# Altium integrated library FPC.IntLib: 24 symbols
Pins are listed as number, name and electrical type; pins without a type are passive.

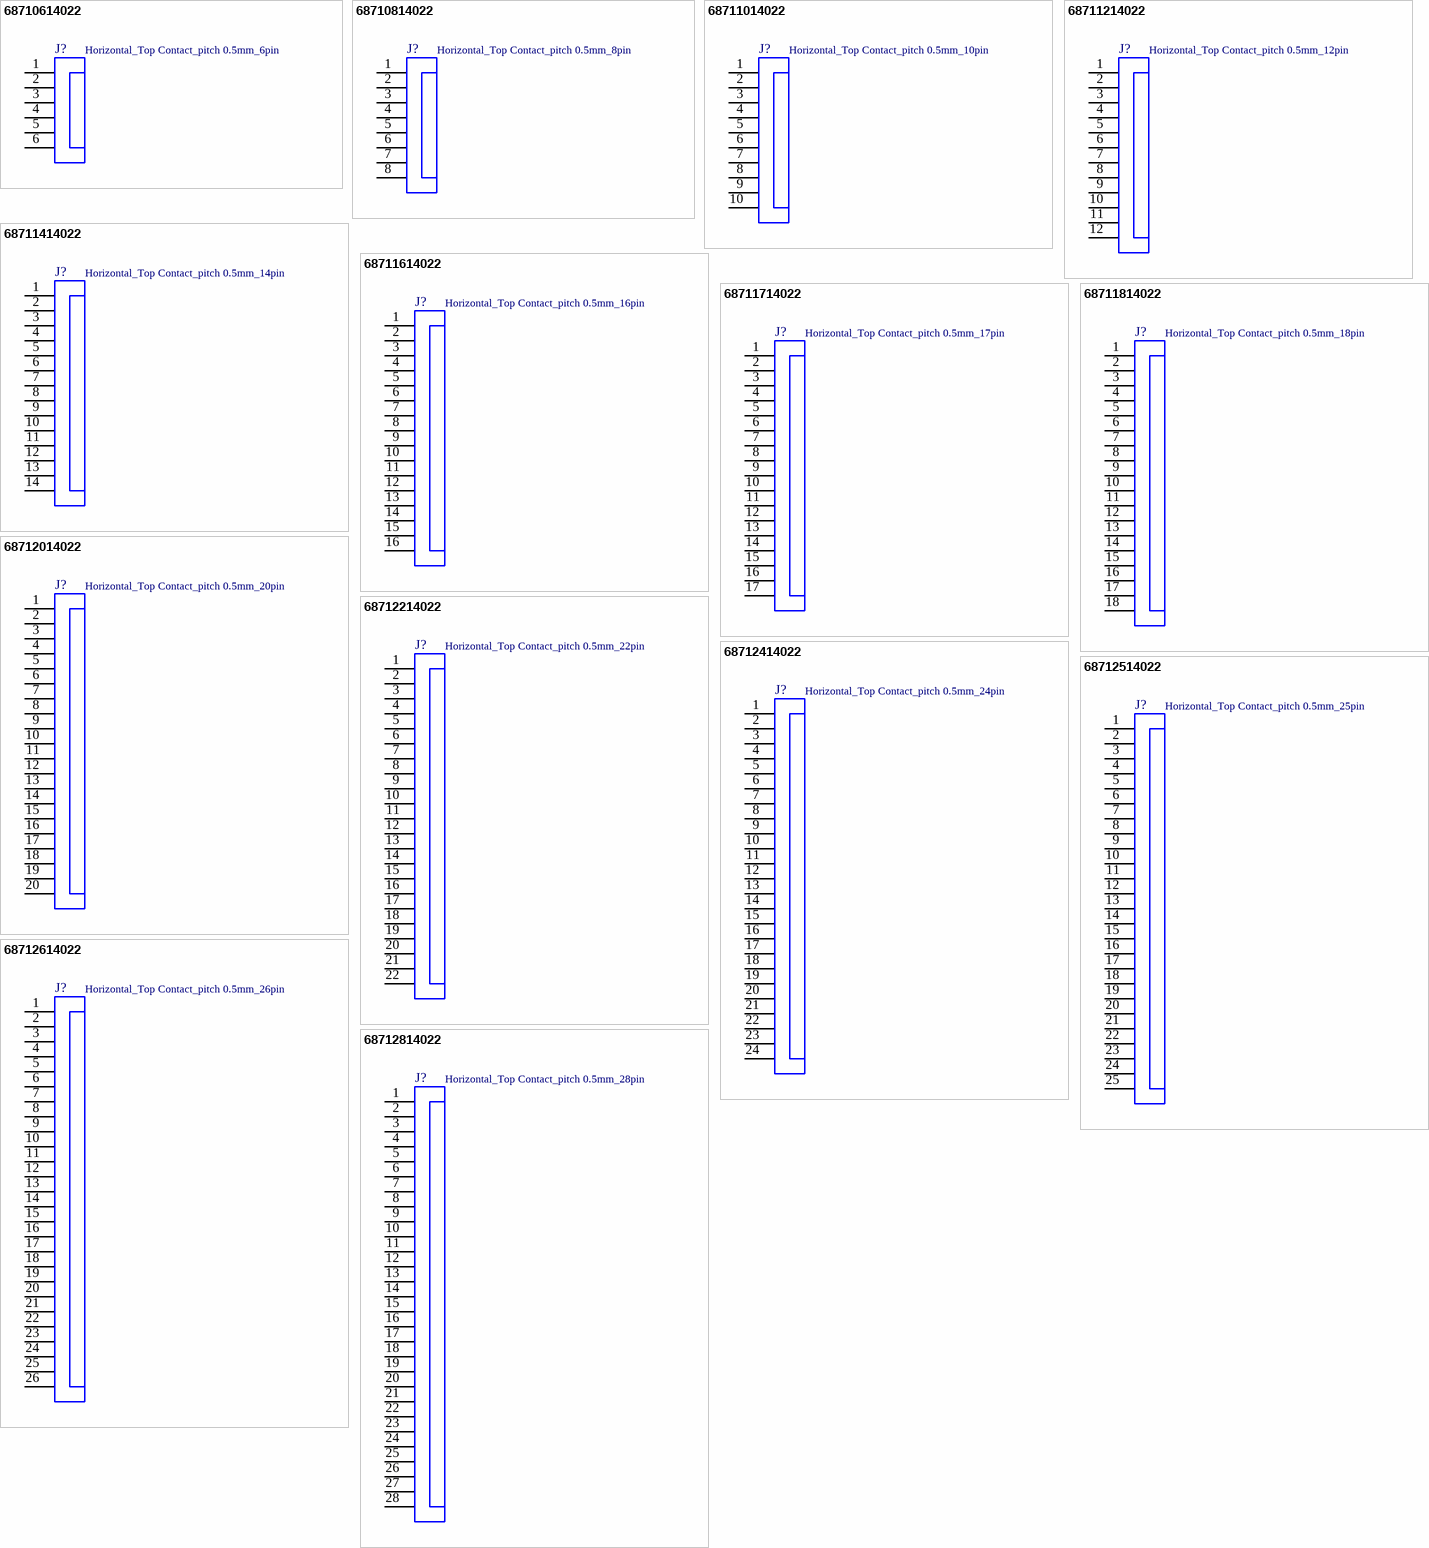
[diagram p0: symbols 68710614022 to 68712814022]

## 68710614022
designator J?, comment Horizontal_Top Contact_pitch 0.5mm_6pin
ZIF Connectors WR-FPC, Horizontal, Top Contact, pitch 0.5mm, 6pin; Part Number: 68710614022; Rated Current: 0.5A; Pin Number: 6; Contact Resistance: 20mOhm; ComponentLink1Description: Manufacturer; ComponentLink1URL: http://www.we-online.de; ComponentLink2Description: Datasheet; ComponentLink2URL: http://katalog.we-online.de/em/datasheet/68710614022.pdf; Published Date: Jan. 2018; Publisher: Wurth Elektronik; Pitch: 0.5mm; Operating Temperature: -25 to 85 degC; Mounting Technology: SMT; Orientation: Horizontal; Contact Design: Top Contact
footprint 68710614022
pins: 1, 2, 3, 4, 5, 6

## 68710814022
designator J?, comment Horizontal_Top Contact_pitch 0.5mm_8pin
ZIF Connectors WR-FPC, Horizontal, Top Contact, pitch 0.5mm, 8pin; Part Number: 68710814022; Rated Current: 0.5A; Pin Number: 8; Contact Resistance: 20mOhm; ComponentLink1Description: Manufacturer; ComponentLink1URL: http://www.we-online.de; ComponentLink2Description: Datasheet; ComponentLink2URL: http://katalog.we-online.de/em/datasheet/68710814022.pdf; Published Date: Jan. 2018; Publisher: Wurth Elektronik; Pitch: 0.5mm; Operating Temperature: -25 to 85 degC; Mounting Technology: SMT; Orientation: Horizontal; Contact Design: Top Contact
footprint 68710814022
pins: 1, 2, 3, 4, 5, 6, 7, 8

## 68711014022
designator J?, comment Horizontal_Top Contact_pitch 0.5mm_10pin
ZIF Connectors WR-FPC, Horizontal, Top Contact, pitch 0.5mm, 10pin; Part Number: 68711014022; Rated Current: 0.5A; Pin Number: 10; Contact Resistance: 20mOhm; ComponentLink1Description: Manufacturer; ComponentLink1URL: http://www.we-online.de; ComponentLink2Description: Datasheet; ComponentLink2URL: http://katalog.we-online.de/em/datasheet/68711014022.pdf; Published Date: Jan. 2018; Publisher: Wurth Elektronik; Pitch: 0.5mm; Operating Temperature: -25 to 85 degC; Mounting Technology: SMT; Orientation: Horizontal; Contact Design: Top Contact
footprint 68711014022
pins: 1, 2, 3, 4, 5, 6, 7, 8, 9, 10

## 68711214022
designator J?, comment Horizontal_Top Contact_pitch 0.5mm_12pin
ZIF Connectors WR-FPC, Horizontal, Top Contact, pitch 0.5mm, 12pin; Part Number: 68711214022; Rated Current: 0.5A; Pin Number: 12; Contact Resistance: 20mOhm; ComponentLink1Description: Manufacturer; ComponentLink1URL: http://www.we-online.de; ComponentLink2Description: Datasheet; ComponentLink2URL: http://katalog.we-online.de/em/datasheet/68711214022.pdf; Published Date: Jan. 2018; Publisher: Wurth Elektronik; Pitch: 0.5mm; Operating Temperature: -25 to 85 degC; Mounting Technology: SMT; Orientation: Horizontal; Contact Design: Top Contact
footprint 68711214022
pins: 1, 2, 3, 4, 5, 6, 7, 8, 9, 10, 11, 12

## 68711414022
designator J?, comment Horizontal_Top Contact_pitch 0.5mm_14pin
ZIF Connectors WR-FPC, Horizontal, Top Contact, pitch 0.5mm, 14pin; Part Number: 68711414022; Rated Current: 0.5A; Pin Number: 14; Contact Resistance: 20mOhm; ComponentLink1Description: Manufacturer; ComponentLink1URL: http://www.we-online.de; ComponentLink2Description: Datasheet; ComponentLink2URL: http://katalog.we-online.de/em/datasheet/68711414022.pdf; Published Date: Jan. 2018; Publisher: Wurth Elektronik; Pitch: 0.5mm; Operating Temperature: -25 to 85 degC; Mounting Technology: SMT; Orientation: Horizontal; Contact Design: Top Contact
footprint 68711414022
pins: 1, 2, 3, 4, 5, 6, 7, 8, 9, 10, 11, 12, 13, 14

## 68711614022
designator J?, comment Horizontal_Top Contact_pitch 0.5mm_16pin
ZIF Connectors WR-FPC, Horizontal, Top Contact, pitch 0.5mm, 16pin; Part Number: 68711614022; Rated Current: 0.5A; Pin Number: 16; Contact Resistance: 20mOhm; ComponentLink1Description: Manufacturer; ComponentLink1URL: http://www.we-online.de; ComponentLink2Description: Datasheet; ComponentLink2URL: http://katalog.we-online.de/em/datasheet/68711614022.pdf; Published Date: Jan. 2018; Publisher: Wurth Elektronik; Pitch: 0.5mm; Operating Temperature: -25 to 85 degC; Mounting Technology: SMT; Orientation: Horizontal; Contact Design: Top Contact
footprint 68711614022
pins: 1, 2, 3, 4, 5, 6, 7, 8, 9, 10, 11, 12, 13, 14, 15, 16

## 68711714022
designator J?, comment Horizontal_Top Contact_pitch 0.5mm_17pin
ZIF Connectors WR-FPC, Horizontal, Top Contact, pitch 0.5mm, 17pin; Part Number: 68711714022; Rated Current: 0.5A; Pin Number: 17; Contact Resistance: 20mOhm; ComponentLink1Description: Manufacturer; ComponentLink1URL: http://www.we-online.de; ComponentLink2Description: Datasheet; ComponentLink2URL: http://katalog.we-online.de/em/datasheet/68711714022.pdf; Published Date: Jan. 2018; Publisher: Wurth Elektronik; Pitch: 0.5mm; Operating Temperature: -25 to 85 degC; Mounting Technology: SMT; Orientation: Horizontal; Contact Design: Top Contact
footprint 68711714022
pins: 1, 2, 3, 4, 5, 6, 7, 8, 9, 10, 11, 12, 13, 14, 15, 16, 17

## 68711814022
designator J?, comment Horizontal_Top Contact_pitch 0.5mm_18pin
ZIF Connectors WR-FPC, Horizontal, Top Contact, pitch 0.5mm, 18pin; Part Number: 68711814022; Rated Current: 0.5A; Pin Number: 18; Contact Resistance: 20mOhm; ComponentLink1Description: Manufacturer; ComponentLink1URL: http://www.we-online.de; ComponentLink2Description: Datasheet; ComponentLink2URL: http://katalog.we-online.de/em/datasheet/68711814022.pdf; Published Date: Jan. 2018; Publisher: Wurth Elektronik; Pitch: 0.5mm; Operating Temperature: -25 to 85 degC; Mounting Technology: SMT; Orientation: Horizontal; Contact Design: Top Contact
footprint 68711814022
pins: 1, 2, 3, 4, 5, 6, 7, 8, 9, 10, 11, 12, 13, 14, 15, 16, 17, 18

## 68712014022
designator J?, comment Horizontal_Top Contact_pitch 0.5mm_20pin
ZIF Connectors WR-FPC, Horizontal, Top Contact, pitch 0.5mm, 20pin; Part Number: 68712014022; Rated Current: 0.5A; Pin Number: 20; Contact Resistance: 20mOhm; ComponentLink1Description: Manufacturer; ComponentLink1URL: http://www.we-online.de; ComponentLink2Description: Datasheet; ComponentLink2URL: http://katalog.we-online.de/em/datasheet/68712014022.pdf; Published Date: Jan. 2018; Publisher: Wurth Elektronik; Pitch: 0.5mm; Operating Temperature: -25 to 85 degC; Mounting Technology: SMT; Orientation: Horizontal; Contact Design: Top Contact
footprint 68712014022
pins: 1, 2, 3, 4, 5, 6, 7, 8, 9, 10, 11, 12, 13, 14, 15, 16, 17, 18, 19, 20

## 68712214022
designator J?, comment Horizontal_Top Contact_pitch 0.5mm_22pin
ZIF Connectors WR-FPC, Horizontal, Top Contact, pitch 0.5mm, 22pin; Part Number: 68712214022; Rated Current: 0.5A; Pin Number: 22; Contact Resistance: 20mOhm; ComponentLink1Description: Manufacturer; ComponentLink1URL: http://www.we-online.de; ComponentLink2Description: Datasheet; ComponentLink2URL: http://katalog.we-online.de/em/datasheet/68712214022.pdf; Published Date: Jan. 2018; Publisher: Wurth Elektronik; Pitch: 0.5mm; Operating Temperature: -25 to 85 degC; Mounting Technology: SMT; Orientation: Horizontal; Contact Design: Top Contact
footprint 68712214022
pins: 1, 2, 3, 4, 5, 6, 7, 8, 9, 10, 11, 12, 13, 14, 15, 16, 17, 18, 19, 20, 21, 22

## 68712414022
designator J?, comment Horizontal_Top Contact_pitch 0.5mm_24pin
ZIF Connectors WR-FPC, Horizontal, Top Contact, pitch 0.5mm, 24pin; Part Number: 68712414022; Rated Current: 0.5A; Pin Number: 24; Contact Resistance: 20mOhm; ComponentLink1Description: Manufacturer; ComponentLink1URL: http://www.we-online.de; ComponentLink2Description: Datasheet; ComponentLink2URL: http://katalog.we-online.de/em/datasheet/68712414022.pdf; Published Date: Jan. 2018; Publisher: Wurth Elektronik; Pitch: 0.5mm; Operating Temperature: -25 to 85 degC; Mounting Technology: SMT; Orientation: Horizontal; Contact Design: Top Contact
footprint 68712414022
pins: 1, 2, 3, 4, 5, 6, 7, 8, 9, 10, 11, 12, 13, 14, 15, 16, 17, 18, 19, 20, 21, 22, 23, 24

## 68712514022
designator J?, comment Horizontal_Top Contact_pitch 0.5mm_25pin
ZIF Connectors WR-FPC, Horizontal, Top Contact, pitch 0.5mm, 25pin; Part Number: 68712514022; Rated Current: 0.5A; Pin Number: 25; Contact Resistance: 20mOhm; ComponentLink1Description: Manufacturer; ComponentLink1URL: http://www.we-online.de; ComponentLink2Description: Datasheet; ComponentLink2URL: http://katalog.we-online.de/em/datasheet/68712514022.pdf; Published Date: Jan. 2018; Publisher: Wurth Elektronik; Pitch: 0.5mm; Operating Temperature: -25 to 85 degC; Mounting Technology: SMT; Orientation: Horizontal; Contact Design: Top Contact
footprint 68712514022
pins: 1, 2, 3, 4, 5, 6, 7, 8, 9, 10, 11, 12, 13, 14, 15, 16, 17, 18, 19, 20, 21, 22, 23, 24, 25

## 68712614022
designator J?, comment Horizontal_Top Contact_pitch 0.5mm_26pin
ZIF Connectors WR-FPC, Horizontal, Top Contact, pitch 0.5mm, 26pin; Part Number: 68712614022; Rated Current: 0.5A; Pin Number: 26; Contact Resistance: 20mOhm; ComponentLink1Description: Manufacturer; ComponentLink1URL: http://www.we-online.de; ComponentLink2Description: Datasheet; ComponentLink2URL: http://katalog.we-online.de/em/datasheet/68712614022.pdf; Published Date: Jan. 2018; Publisher: Wurth Elektronik; Pitch: 0.5mm; Operating Temperature: -25 to 85 degC; Mounting Technology: SMT; Orientation: Horizontal; Contact Design: Top Contact
footprint 68712614022
pins: 1, 2, 3, 4, 5, 6, 7, 8, 9, 10, 11, 12, 13, 14, 15, 16, 17, 18, 19, 20, 21, 22, 23, 24, 25, 26

## 68712814022
designator J?, comment Horizontal_Top Contact_pitch 0.5mm_28pin
ZIF Connectors WR-FPC, Horizontal, Top Contact, pitch 0.5mm, 28pin; Part Number: 68712814022; Rated Current: 0.5A; Pin Number: 28; Contact Resistance: 20mOhm; ComponentLink1Description: Manufacturer; ComponentLink1URL: http://www.we-online.de; ComponentLink2Description: Datasheet; ComponentLink2URL: http://katalog.we-online.de/em/datasheet/68712814022.pdf; Published Date: Jan. 2018; Publisher: Wurth Elektronik; Pitch: 0.5mm; Operating Temperature: -25 to 85 degC; Mounting Technology: SMT; Orientation: Horizontal; Contact Design: Top Contact
footprint 68712814022
pins: 1, 2, 3, 4, 5, 6, 7, 8, 9, 10, 11, 12, 13, 14, 15, 16, 17, 18, 19, 20, 21, 22, 23, 24, 25, 26, 27, 28

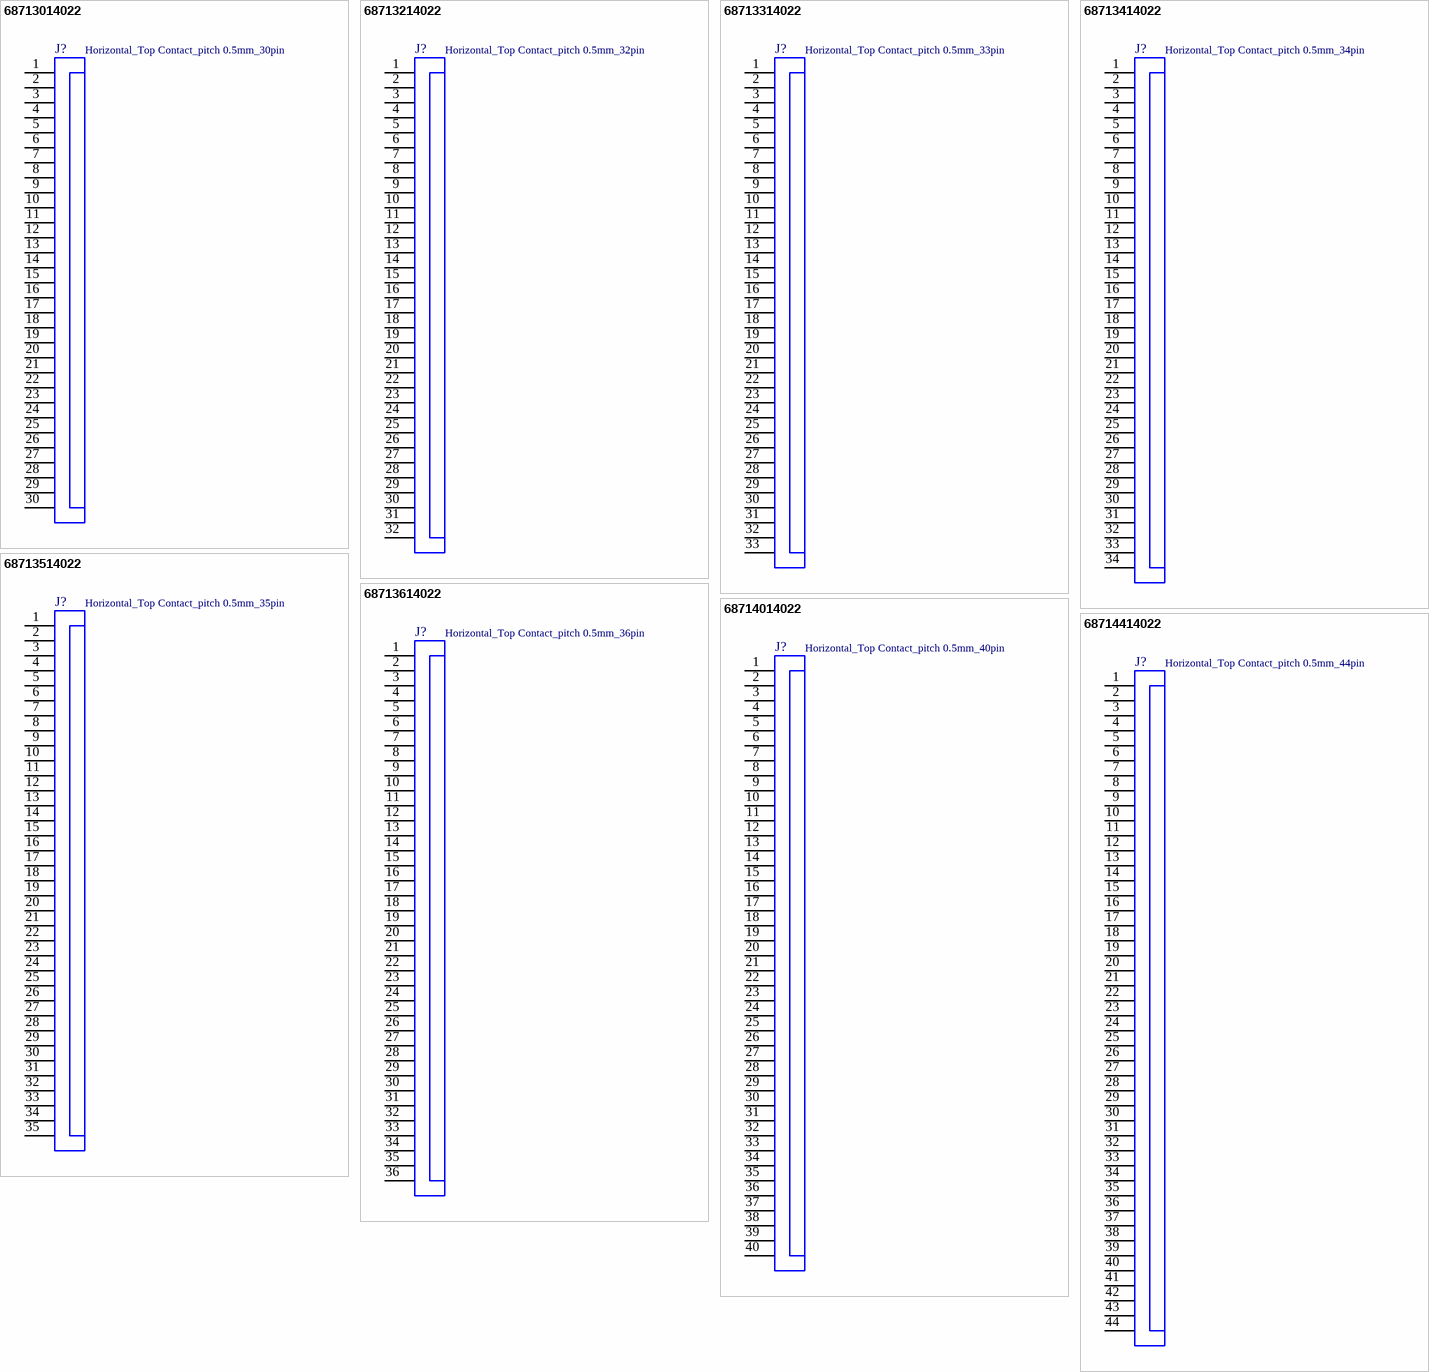
[diagram p1: symbols 68713014022 to 68714414022]

## 68713014022
designator J?, comment Horizontal_Top Contact_pitch 0.5mm_30pin
ZIF Connectors WR-FPC, Horizontal, Top Contact, pitch 0.5mm, 30pin; Part Number: 68713014022; Rated Current: 0.5A; Pin Number: 30; Contact Resistance: 20mOhm; ComponentLink1Description: Manufacturer; ComponentLink1URL: http://www.we-online.de; ComponentLink2Description: Datasheet; ComponentLink2URL: http://katalog.we-online.de/em/datasheet/68713014022.pdf; Published Date: Jan. 2018; Publisher: Wurth Elektronik; Pitch: 0.5mm; Operating Temperature: -25 to 85 degC; Mounting Technology: SMT; Orientation: Horizontal; Contact Design: Top Contact
footprint 68713014022
pins: 1, 2, 3, 4, 5, 6, 7, 8, 9, 10, 11, 12, 13, 14, 15, 16, 17, 18, 19, 20, 21, 22, 23, 24, 25, 26, 27, 28, 29, 30

## 68713214022
designator J?, comment Horizontal_Top Contact_pitch 0.5mm_32pin
ZIF Connectors WR-FPC, Horizontal, Top Contact, pitch 0.5mm, 32pin; Part Number: 68713214022; Rated Current: 0.5A; Pin Number: 32; Contact Resistance: 20mOhm; ComponentLink1Description: Manufacturer; ComponentLink1URL: http://www.we-online.de; ComponentLink2Description: Datasheet; ComponentLink2URL: http://katalog.we-online.de/em/datasheet/68713214022.pdf; Published Date: Jan. 2018; Publisher: Wurth Elektronik; Pitch: 0.5mm; Operating Temperature: -25 to 85 degC; Mounting Technology: SMT; Orientation: Horizontal; Contact Design: Top Contact
footprint 68713214022
pins: 1, 2, 3, 4, 5, 6, 7, 8, 9, 10, 11, 12, 13, 14, 15, 16, 17, 18, 19, 20, 21, 22, 23, 24, 25, 26, 27, 28, 29, 30, 31, 32

## 68713314022
designator J?, comment Horizontal_Top Contact_pitch 0.5mm_33pin
ZIF Connectors WR-FPC, Horizontal, Top Contact, pitch 0.5mm, 33pin; Part Number: 68713314022; Rated Current: 0.5A; Pin Number: 33; Contact Resistance: 20mOhm; ComponentLink1Description: Manufacturer; ComponentLink1URL: http://www.we-online.de; ComponentLink2Description: Datasheet; ComponentLink2URL: http://katalog.we-online.de/em/datasheet/68713314022.pdf; Published Date: Jan. 2018; Publisher: Wurth Elektronik; Pitch: 0.5mm; Operating Temperature: -25 to 85 degC; Mounting Technology: SMT; Orientation: Horizontal; Contact Design: Top Contact
footprint 68713314022
pins: 1, 2, 3, 4, 5, 6, 7, 8, 9, 10, 11, 12, 13, 14, 15, 16, 17, 18, 19, 20, 21, 22, 23, 24, 25, 26, 27, 28, 29, 30, 31, 32, 33

## 68713414022
designator J?, comment Horizontal_Top Contact_pitch 0.5mm_34pin
ZIF Connectors WR-FPC, Horizontal, Top Contact, pitch 0.5mm, 34pin; Part Number: 68713414022; Rated Current: 0.5A; Pin Number: 34; Contact Resistance: 20mOhm; ComponentLink1Description: Manufacturer; ComponentLink1URL: http://www.we-online.de; ComponentLink2Description: Datasheet; ComponentLink2URL: http://katalog.we-online.de/em/datasheet/68713414022.pdf; Published Date: Jan. 2018; Publisher: Wurth Elektronik; Pitch: 0.5mm; Operating Temperature: -25 to 85 degC; Mounting Technology: SMT; Orientation: Horizontal; Contact Design: Top Contact
footprint 68713414022
pins: 1, 2, 3, 4, 5, 6, 7, 8, 9, 10, 11, 12, 13, 14, 15, 16, 17, 18, 19, 20, 21, 22, 23, 24, 25, 26, 27, 28, 29, 30, 31, 32, 33, 34

## 68713514022
designator J?, comment Horizontal_Top Contact_pitch 0.5mm_35pin
ZIF Connectors WR-FPC, Horizontal, Top Contact, pitch 0.5mm, 35pin; Part Number: 68713514022; Rated Current: 0.5A; Pin Number: 35; Contact Resistance: 20mOhm; ComponentLink1Description: Manufacturer; ComponentLink1URL: http://www.we-online.de; ComponentLink2Description: Datasheet; ComponentLink2URL: http://katalog.we-online.de/em/datasheet/68713514022.pdf; Published Date: Jan. 2018; Publisher: Wurth Elektronik; Pitch: 0.5mm; Operating Temperature: -25 to 85 degC; Mounting Technology: SMT; Orientation: Horizontal; Contact Design: Top Contact
footprint 68713514022
pins: 1, 2, 3, 4, 5, 6, 7, 8, 9, 10, 11, 12, 13, 14, 15, 16, 17, 18, 19, 20, 21, 22, 23, 24, 25, 26, 27, 28, 29, 30, 31, 32, 33, 34, 35

## 68713614022
designator J?, comment Horizontal_Top Contact_pitch 0.5mm_36pin
ZIF Connectors WR-FPC, Horizontal, Top Contact, pitch 0.5mm, 36pin; Part Number: 68713614022; Rated Current: 0.5A; Pin Number: 36; Contact Resistance: 20mOhm; ComponentLink1Description: Manufacturer; ComponentLink1URL: http://www.we-online.de; ComponentLink2Description: Datasheet; ComponentLink2URL: http://katalog.we-online.de/em/datasheet/68713614022.pdf; Published Date: Jan. 2018; Publisher: Wurth Elektronik; Pitch: 0.5mm; Operating Temperature: -25 to 85 degC; Mounting Technology: SMT; Orientation: Horizontal; Contact Design: Top Contact
footprint 68713614022
pins: 1, 2, 3, 4, 5, 6, 7, 8, 9, 10, 11, 12, 13, 14, 15, 16, 17, 18, 19, 20, 21, 22, 23, 24, 25, 26, 27, 28, 29, 30, 31, 32, 33, 34, 35, 36

## 68714014022
designator J?, comment Horizontal_Top Contact_pitch 0.5mm_40pin
ZIF Connectors WR-FPC, Horizontal, Top Contact, pitch 0.5mm, 40pin; Part Number: 68714014022; Rated Current: 0.5A; Pin Number: 40; Contact Resistance: 20mOhm; ComponentLink1Description: Manufacturer; ComponentLink1URL: http://www.we-online.de; ComponentLink2Description: Datasheet; ComponentLink2URL: http://katalog.we-online.de/em/datasheet/68714014022.pdf; Published Date: Jan. 2018; Publisher: Wurth Elektronik; Pitch: 0.5mm; Operating Temperature: -25 to 85 degC; Mounting Technology: SMT; Orientation: Horizontal; Contact Design: Top Contact
footprint 68714014022
pins: 1, 2, 3, 4, 5, 6, 7, 8, 9, 10, 11, 12, 13, 14, 15, 16, 17, 18, 19, 20, 21, 22, 23, 24, 25, 26, 27, 28, 29, 30, 31, 32, 33, 34, 35, 36, 37, 38, 39, 40

## 68714414022
designator J?, comment Horizontal_Top Contact_pitch 0.5mm_44pin
ZIF Connectors WR-FPC, Horizontal, Top Contact, pitch 0.5mm, 44pin; Part Number: 68714414022; Rated Current: 0.5A; Pin Number: 44; Contact Resistance: 20mOhm; ComponentLink1Description: Manufacturer; ComponentLink1URL: http://www.we-online.de; ComponentLink2Description: Datasheet; ComponentLink2URL: http://katalog.we-online.de/em/datasheet/68714414022.pdf; Published Date: Jan. 2018; Publisher: Wurth Elektronik; Pitch: 0.5mm; Operating Temperature: -25 to 85 degC; Mounting Technology: SMT; Orientation: Horizontal; Contact Design: Top Contact
footprint 68714414022
pins: 1, 2, 3, 4, 5, 6, 7, 8, 9, 10, 11, 12, 13, 14, 15, 16, 17, 18, 19, 20, 21, 22, 23, 24, 25, 26, 27, 28, 29, 30, 31, 32, 33, 34, 35, 36, 37, 38, 39, 40, 41, 42, 43, 44

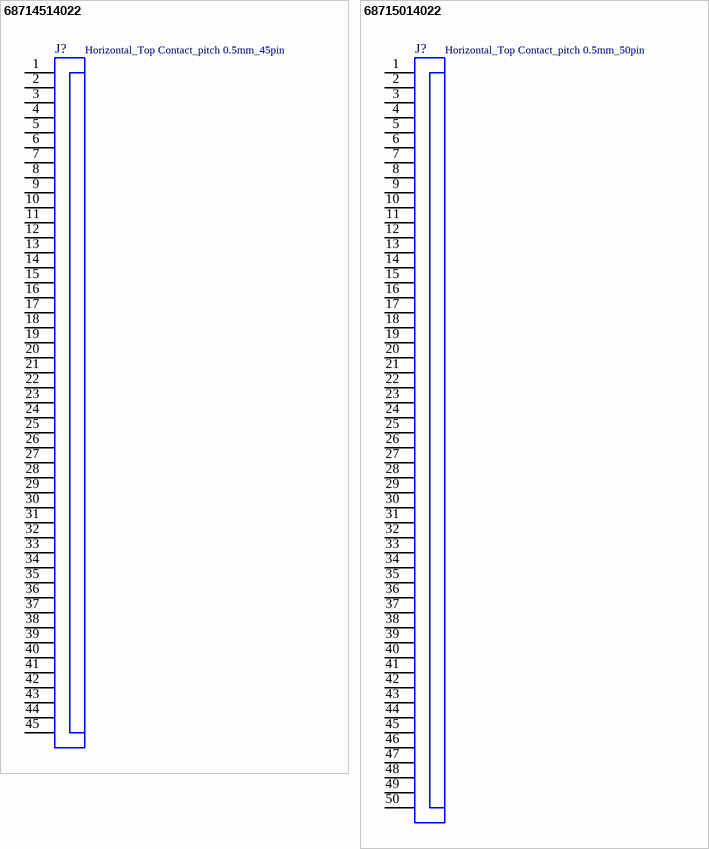
[diagram p2: symbols 68714514022 to 68715014022]

## 68714514022
designator J?, comment Horizontal_Top Contact_pitch 0.5mm_45pin
ZIF Connectors WR-FPC, Horizontal, Top Contact, pitch 0.5mm, 45pin; Part Number: 68714514022; Rated Current: 0.5A; Pin Number: 45; Contact Resistance: 20mOhm; ComponentLink1Description: Manufacturer; ComponentLink1URL: http://www.we-online.de; ComponentLink2Description: Datasheet; ComponentLink2URL: http://katalog.we-online.de/em/datasheet/68714514022.pdf; Published Date: Jan. 2018; Publisher: Wurth Elektronik; Pitch: 0.5mm; Operating Temperature: -25 to 85 degC; Mounting Technology: SMT; Orientation: Horizontal; Contact Design: Top Contact
footprint 68714514022
pins: 1, 2, 3, 4, 5, 6, 7, 8, 9, 10, 11, 12, 13, 14, 15, 16, 17, 18, 19, 20, 21, 22, 23, 24, 25, 26, 27, 28, 29, 30, 31, 32, 33, 34, 35, 36, 37, 38, 39, 40, 41, 42, 43, 44, 45

## 68715014022
designator J?, comment Horizontal_Top Contact_pitch 0.5mm_50pin
ZIF Connectors WR-FPC, Horizontal, Top Contact, pitch 0.5mm, 50pin; Part Number: 68715014022; Rated Current: 0.5A; Pin Number: 50; Contact Resistance: 20mOhm; ComponentLink1Description: Manufacturer; ComponentLink1URL: http://www.we-online.de; ComponentLink2Description: Datasheet; ComponentLink2URL: http://katalog.we-online.de/em/datasheet/68715014022.pdf; Published Date: Jan. 2018; Publisher: Wurth Elektronik; Pitch: 0.5mm; Operating Temperature: -25 to 85 degC; Mounting Technology: SMT; Orientation: Horizontal; Contact Design: Top Contact
footprint 68715014022
pins: 1, 2, 3, 4, 5, 6, 7, 8, 9, 10, 11, 12, 13, 14, 15, 16, 17, 18, 19, 20, 21, 22, 23, 24, 25, 26, 27, 28, 29, 30, 31, 32, 33, 34, 35, 36, 37, 38, 39, 40, 41, 42, 43, 44, 45, 46, 47, 48, 49, 50